# EAGLE library part ISL83491IBZ (library Intersil_By_element14_Batch_1)
Transceivers
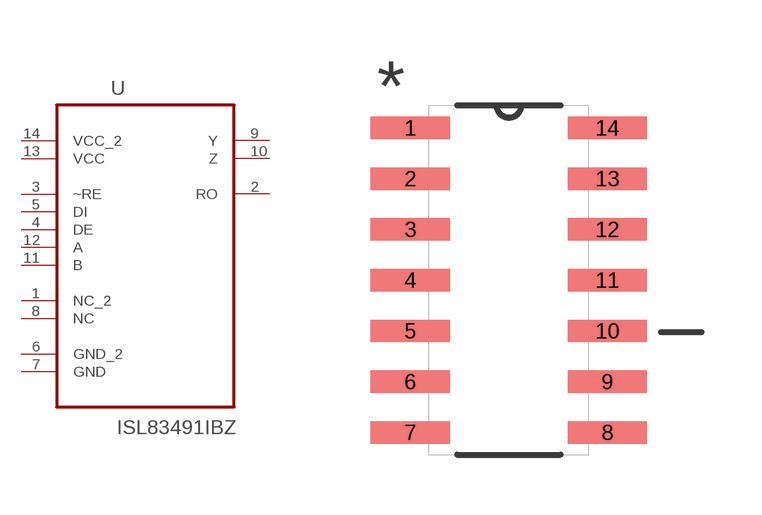
[diagram p223: symbol with the pads of SOIC127P600X175-14N; footprint SOIC127P600X175-14N]

Designator prefix U

## ISL83491IBZ (MPN: ISL83491IBZ; OC_FARNELL: 1562055; OC_NEWARK: 61J6752; PACKAGE: SOIC-14; SUPPLIER: Intersil)  [SOIC127P600X175-14N]
1  NC_2  nc
2  RO  out
3  ~RE  in
4  DE  in
5  DI  in
6  GND_2  pas
7  GND  pas
8  NC  nc
9  Y  out
10  Z  out
11  B  in
12  A  in
13  VCC  pwr
14  VCC_2  pwr

## Footprint SOIC127P600X175-14N (pad centres in mm)
smd 1.981 x 0.559: 1 -2.464,3.81; 2 -2.464,2.54; 3 -2.464,1.27; 4 -2.464,0; 5 -2.464,-1.27; 6 -2.464,-2.54; 7 -2.464,-3.81; 8 2.464,-3.81; 9 2.464,-2.54; 10 2.464,-1.27; 11 2.464,0; 12 2.464,1.27; 13 2.464,2.54; 14 2.464,3.81